# Altium schematic symbol library CONN-8-PIN.SchLib: 1 symbol
Pins are listed as number, name and electrical type; pins without a type are passive.

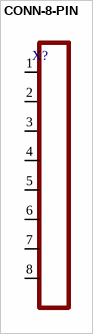
[diagram p0: symbol CONN-8-PIN]

## CONN-8-PIN
designator X?
footprint CONN-PLS-8-2.00mm
footprint CONN-PLS-8-2.00mm
pins: 1, 2, 3, 4, 5, 6, 7, 8